# EAGLE library part GD25Q16CS (library FaBo-EEPROM)
GD25Q16CS 3.3V UniformSectorDual and Quad Serial Flash 16M-bit Serial Flash(2048KB) SPI,QSPI 120MHz fast read,30PF load SPI,240Mbit/s QSPI 480Mbis/s SOP8(208mil)
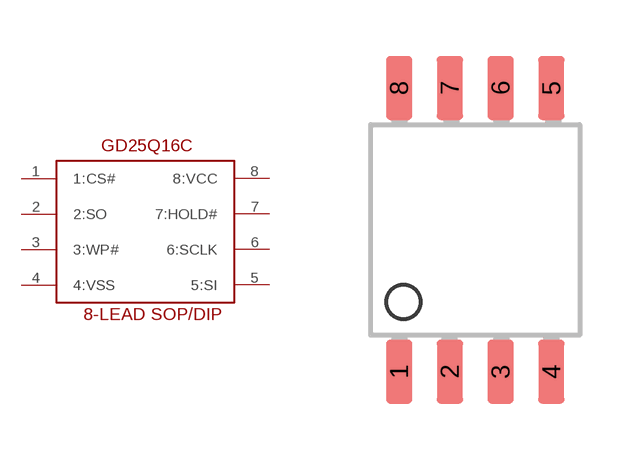
[diagram p0: symbol with the pads of SOP8-208MIL; footprint SOP8-208MIL]

Designator prefix -

## GD25Q16CS  [SOP8-208MIL]
1  1:CS#
2  2:SO
3  3:WP#
4  4:VSS
5  5:SI
6  6:SCLK
7  7:HOLD#
8  8:VCC

## Footprint SOP8-208MIL (pad centres in mm)
smd 0.65 x 1.6: 1 -1.905,-3.55; 2 -0.635,-3.55; 3 0.635,-3.55; 4 1.905,-3.55; 5 1.905,3.55; 6 0.635,3.55; 7 -0.635,3.55; 8 -1.905,3.55